# Altium schematic symbol library IRF9Z34NPEF.SchLib: 1 symbol
Pins are listed as number, name and electrical type; pins without a type are passive.

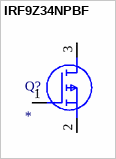
[diagram p0: symbol IRF9Z34NPBF]

## IRF9Z34NPBF
designator Q?
MOSFET (P-Channel); Manufacturer_Name: Infineon; Manufacturer_Part_Number: IRF9Z34NPBF; Datasheet Link: https://componentsearchengine.com//IRF9Z34NPBF.pdf; Height: 4.69mm; Mouser2 Part Number: 942-IRF9Z34NPBF; Mouser2 Price/Stock: https://www.mouser.com/Search/Refine.aspx?Keyword=942-IRF9Z34NPBF
footprint TO254P469X1042X1967-3P
pins: 1 G, 2 S, 3 D